# Altium footprint library Molex Microfit.PCBLIB: 194 footprints (part 1 of 13)
Each footprint in its own frame and in the unit in brackets; x right, y up, seen from the top. Pads: shape width x height; smd on the part's side, far side on the other; paste and mask are expansions set on the pad; w line width, h text height; cw(c..) or ccw(c..) is an arc to the next point about the centre after c.
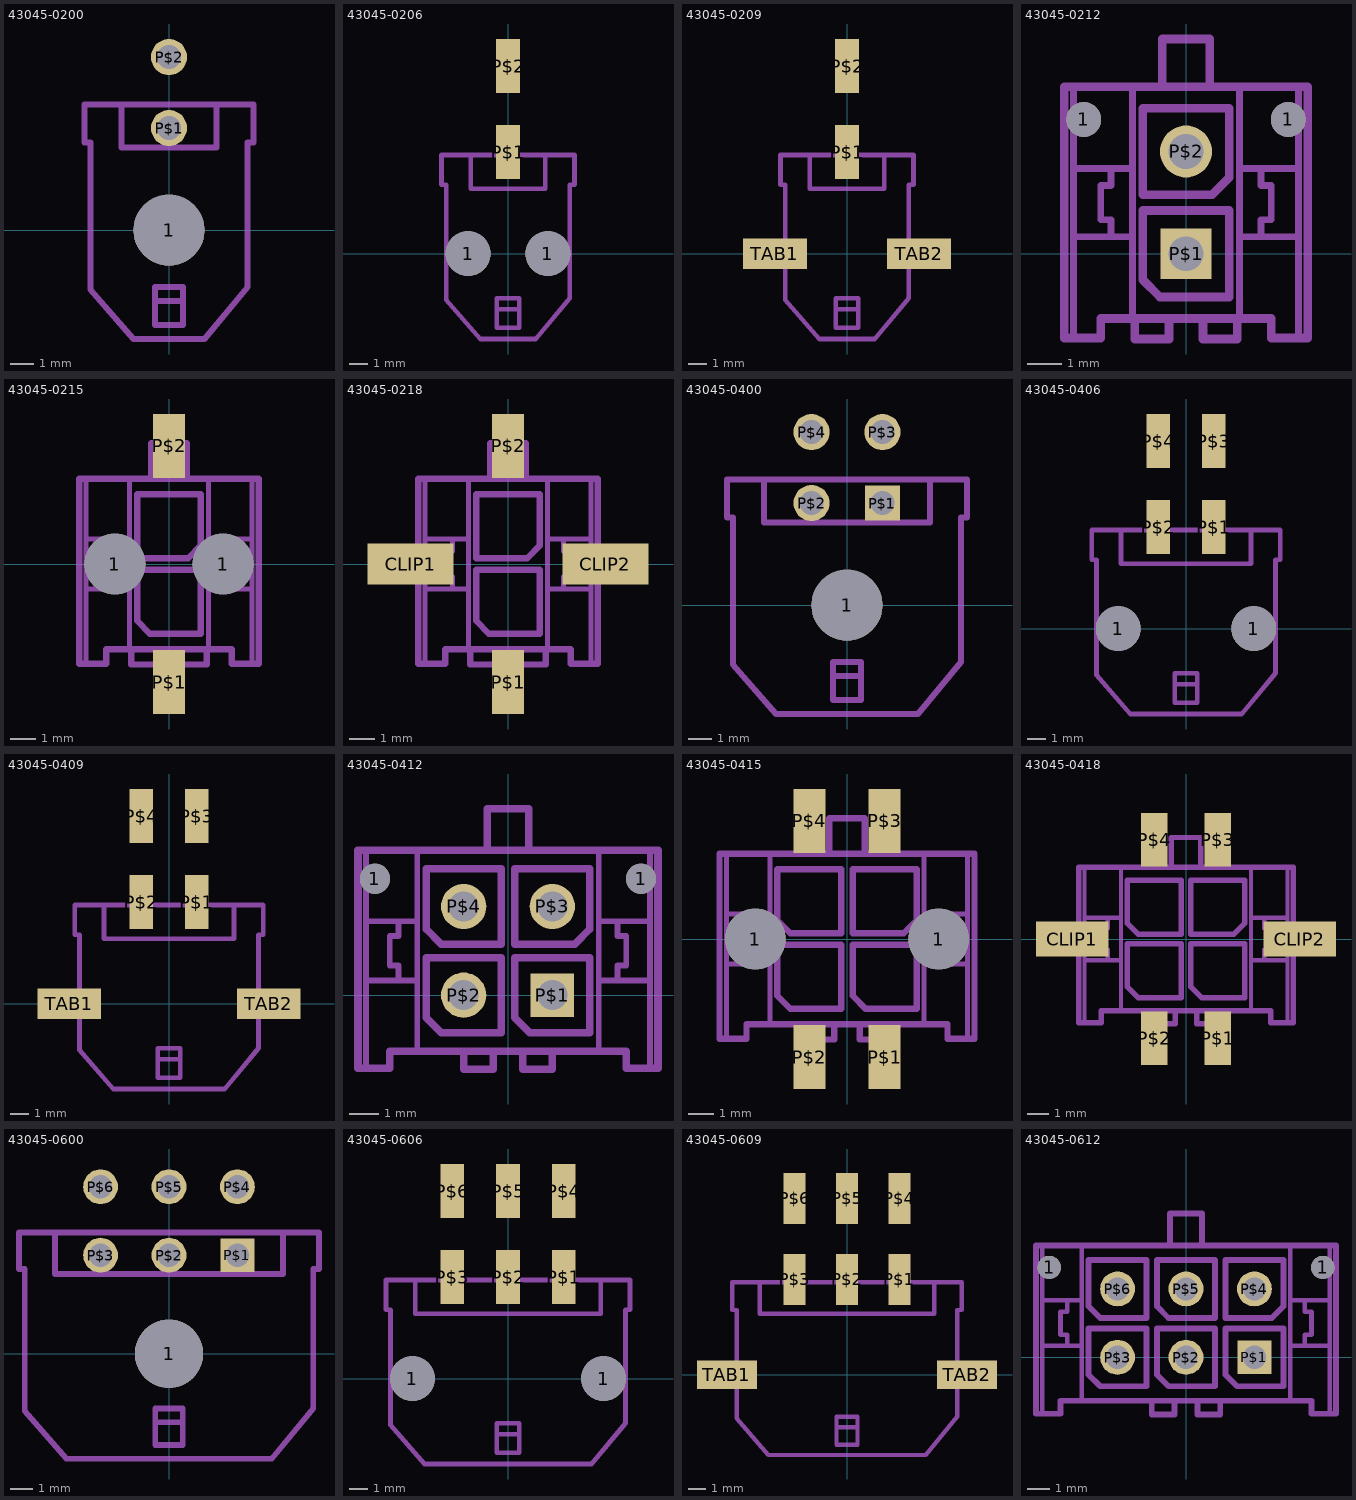
[diagram p0: the footprints below, top view; thin cyan lines are the x and y axes]

## 43045-0200 [mm]
pads (3):
  round 3 hole 3 unplated: 1(0,0)
  round 1.53 / inner round 1.524 / far side round 1.53 hole 1.02: P$1(0,4.32) P$2(0,7.32)
Mechanical 22:
  lines w0.254: -2,5.31 -3.58,5.31 -3.58,3.71 -3.325,3.71 -3.325,-2.5 -1.5,-4.6 1.5,-4.6 3.325,-2.4 3.325,3.71 3.58,3.71 3.58,5.31 2,5.31 ; -2,5.31 2,5.31 ; -2,5.31 -2,3.5 2,3.5 2,5.31 ; -0.6,-3 -0.6,-4 0.6,-4 0.6,-3 ; -0.6,-3 -0.6,-2.4 0.6,-2.4 0.6,-3 ; -0.6,-3 0.6,-3

## 43045-0206 [mm]
pads (4):
  round 2.41 hole 2.41 unplated: 1(-2.15,0) 1(2.15,0)
  rect 1.27x2.92 smd: P$1(0,5.47) P$2(0,10.1)
Mechanical 22:
  lines w0.254: -2,5.31 -3.58,5.31 -3.58,3.71 -3.325,3.71 -3.325,-2.5 -1.5,-4.6 1.5,-4.6 3.325,-2.4 3.325,3.71 3.58,3.71 3.58,5.31 2,5.31 ; -2,5.31 2,5.31 ; -2,5.31 -2,3.5 2,3.5 2,5.31 ; -0.6,-3 -0.6,-4 0.6,-4 0.6,-3 ; -0.6,-3 -0.6,-2.4 0.6,-2.4 0.6,-3 ; -0.6,-3 0.6,-3

## 43045-0209 [mm]
pads (4):
  rect 1.27x2.92 smd: P$1(0,5.47) P$2(0,10.1)
  rect 3.43x1.65 smd: TAB1(-3.88,0) TAB2(3.88,0)
Mechanical 22:
  lines w0.254: -2,5.31 -3.58,5.31 -3.58,3.71 -3.325,3.71 -3.325,-2.5 -1.5,-4.6 1.5,-4.6 3.325,-2.4 3.325,3.71 3.58,3.71 3.58,5.31 2,5.31 ; -2,5.31 2,5.31 ; -2,5.31 -2,3.5 2,3.5 2,5.31 ; -0.6,-3 -0.6,-4 0.6,-4 0.6,-3 ; -0.6,-3 -0.6,-2.4 0.6,-2.4 0.6,-3 ; -0.6,-3 0.6,-3

## 43045-0212 [mm]
pads (4):
  round 1.02 hole 1.02 unplated: 1(-3,3.94) 1(3,3.94)
  rect 1.482x1.482 / inner rect 1.524x1.524 / far side rect 1.482x1.482 hole 1.02: P$1(0,0)
  round 1.53 / inner round 1.524 / far side round 1.53 hole 1.02: P$2(0,3)
Mechanical 22:
  lines w0.2: -3.3,-2.47 -3.3,0.5 ; -3.3,4.9 -3.3,2.5 ; -1.57,-1.9 -1.57,0.5 ; -1.57,4.9 -1.57,2.5 ; 1.57,-1.9 1.57,0.5 ; 1.57,4.9 1.57,2.5 ; 3.3,-2.47 3.3,0.5 ; 3.3,4.9 3.3,2.5 ; -3.3,0.5 -2.2,0.5 ; -3.3,0.5 -3.3,2.5 ; -3.3,2.5 -2.2,2.5 ; -2.2,0.5 -2.2,1 -2.5,1 -2.5,2 -2.2,2 -2.2,2.5 ; -2.2,0.5 -1.57,0.5 ; -2.2,2.5 -1.57,2.5 ; -1.57,0.5 -1.57,2.5 ; 1.57,0.5 2.2,0.5 ; 1.57,0.5 1.57,2.5 ; 1.57,2.5 2.2,2.5 ; 2.2,0.5 2.2,1 2.5,1 2.5,2 2.2,2 2.2,2.5 ; 2.2,0.5 3.3,0.5 ; 2.2,2.5 3.3,2.5 ; 3.3,0.5 3.3,2.5
  lines w0.254: -1.5,-1.9 -1.5,-2.5 -0.5,-2.5 -0.5,-1.9 ; -1.5,-1.9 -1.57,-1.9 -2.5,-1.9 -2.5,-2.47 -3.3,-2.47 -3.575,-2.47 -3.575,4.9 -3.3,4.9 -1.57,4.9 -0.7,4.9 ; -1.5,-1.9 -0.5,-1.9 ; -0.7,4.9 -0.7,6.3 0.7,6.3 0.7,4.9 ; -0.7,4.9 0.7,4.9 ; -0.5,-1.9 0.5,-1.9 ; 0.5,-1.9 0.5,-2.5 1.5,-2.5 1.5,-1.9 ; 0.5,-1.9 1.5,-1.9 ; 0.7,4.9 1.57,4.9 3.3,4.9 3.575,4.9 3.575,-2.47 3.3,-2.47 2.5,-2.47 2.5,-1.9 1.57,-1.9 1.5,-1.9 ; -1.27,-0.762 -0.762,-1.27 1.27,-1.27 1.27,1.27 -1.27,1.27 -1.27,-0.762
Mechanical 23:
  lines w0.254: -1.27,1.73 0.762,1.73 1.27,2.238 1.27,4.27 -1.27,4.27 -1.27,1.73

## 43045-0215 [mm]
pads (4):
  round 2.41 hole 2.41 unplated: 1(-2.15,0) 1(2.15,0)
  rect 1.27x2.54 smd: P$1(0,-4.7) P$2(0,4.7)
Mechanical 22:
  lines w0.2: -3.3,-3.97 -3.3,-1 ; -3.3,3.4 -3.3,1 ; -1.57,-3.4 -1.57,-1 ; -1.57,3.4 -1.57,1 ; 1.57,-3.4 1.57,-1 ; 1.57,3.4 1.57,1 ; 3.3,-3.97 3.3,-1 ; 3.3,3.4 3.3,1 ; -3.3,-1 -3.3,1 ; -3.3,-1 -2.2,-1 ; -3.3,1 -2.2,1 ; -2.2,-1 -1.57,-1 ; -2.2,-1 -2.2,-0.5 -2.5,-0.5 -2.5,0.5 -2.2,0.5 -2.2,1 ; -2.2,1 -1.57,1 ; -1.57,-1 -1.57,1 ; 1.57,-1 1.57,1 ; 1.57,-1 2.2,-1 ; 1.57,1 2.2,1 ; 2.2,-1 3.3,-1 ; 2.2,-1 2.2,-0.5 2.5,-0.5 2.5,0.5 2.2,0.5 2.2,1 ; 2.2,1 3.3,1 ; 3.3,-1 3.3,1
  lines w0.254: -1.5,-3.4 -0.5,-3.4 ; -1.5,-3.4 -1.57,-3.4 -2.5,-3.4 -2.5,-3.97 -3.3,-3.97 -3.575,-3.97 -3.575,3.4 -3.3,3.4 -1.57,3.4 -0.7,3.4 ; -1.5,-3.4 -1.5,-4 -0.5,-4 -0.5,-3.4 ; -0.7,3.4 0.7,3.4 ; -0.7,3.4 -0.7,4.8 0.7,4.8 0.7,3.4 ; -0.5,-3.4 0.5,-3.4 ; 0.5,-3.4 1.5,-3.4 ; 0.5,-3.4 0.5,-4 1.5,-4 1.5,-3.4 ; 0.7,3.4 1.57,3.4 3.3,3.4 3.575,3.4 3.575,-3.97 3.3,-3.97 2.5,-3.97 2.5,-3.4 1.57,-3.4 1.5,-3.4 ; -1.27,-2.262 -1.27,-0.23 1.27,-0.23 1.27,-2.77 -0.762,-2.77 -1.27,-2.262
Mechanical 23:
  lines w0.254: -1.27,0.23 -1.27,2.77 1.27,2.77 1.27,0.738 0.762,0.23 -1.27,0.23

## 43045-0218 [mm]
pads (4):
  rect 3.43x1.65 smd: CLIP1(-3.88,0) CLIP2(3.88,0)
  rect 1.27x2.54 smd: P$1(0,-4.7) P$2(0,4.7)
Mechanical 22:
  lines w0.2: -3.3,-3.97 -3.3,-1 ; -3.3,3.4 -3.3,1 ; -1.57,-3.4 -1.57,-1 ; -1.57,3.4 -1.57,1 ; 1.57,-3.4 1.57,-1 ; 1.57,3.4 1.57,1 ; 3.3,-3.97 3.3,-1 ; 3.3,3.4 3.3,1 ; -3.3,-1 -2.2,-1 ; -3.3,-1 -3.3,1 ; -3.3,1 -2.2,1 ; -2.2,-1 -2.2,-0.5 -2.5,-0.5 -2.5,0.5 -2.2,0.5 -2.2,1 ; -2.2,-1 -1.57,-1 ; -2.2,1 -1.57,1 ; -1.57,-1 -1.57,1 ; 1.57,-1 2.2,-1 ; 1.57,-1 1.57,1 ; 1.57,1 2.2,1 ; 2.2,-1 2.2,-0.5 2.5,-0.5 2.5,0.5 2.2,0.5 2.2,1 ; 2.2,-1 3.3,-1 ; 2.2,1 3.3,1 ; 3.3,-1 3.3,1
  lines w0.254: -1.5,-3.4 -1.5,-4 -0.5,-4 -0.5,-3.4 ; -1.5,-3.4 -1.57,-3.4 -2.5,-3.4 -2.5,-3.97 -3.3,-3.97 -3.575,-3.97 -3.575,3.4 -3.3,3.4 -1.57,3.4 -0.7,3.4 ; -1.5,-3.4 -0.5,-3.4 ; -0.7,3.4 -0.7,4.8 0.7,4.8 0.7,3.4 ; -0.7,3.4 0.7,3.4 ; -0.5,-3.4 0.5,-3.4 ; 0.5,-3.4 0.5,-4 1.5,-4 1.5,-3.4 ; 0.5,-3.4 1.5,-3.4 ; 0.7,3.4 1.57,3.4 3.3,3.4 3.575,3.4 3.575,-3.97 3.3,-3.97 2.5,-3.97 2.5,-3.4 1.57,-3.4 1.5,-3.4 ; -1.27,-2.262 -0.762,-2.77 1.27,-2.77 1.27,-0.23 -1.27,-0.23 -1.27,-2.262
Mechanical 23:
  lines w0.254: -1.27,0.23 0.762,0.23 1.27,0.738 1.27,2.77 -1.27,2.77 -1.27,0.23

## 43045-0400 [mm]
pads (5):
  round 3 hole 3 unplated: 1(0,0)
  rect 1.482x1.482 / inner rect 1.524x1.524 / far side rect 1.482x1.482 hole 1.02: P$1(1.5,4.32)
  round 1.53 / inner round 1.524 / far side round 1.53 hole 1.02: P$2(-1.5,4.32) P$3(1.5,7.32) P$4(-1.5,7.32)
Mechanical 22:
  lines w0.254: -3.5,5.31 -5.08,5.31 -5.08,3.71 -4.825,3.71 -4.825,-2.5 -3,-4.6 3,-4.6 4.825,-2.4 4.825,3.71 5.08,3.71 5.08,5.31 3.5,5.31 ; -3.5,5.31 3.5,5.31 ; -3.5,5.31 -3.5,3.5 3.5,3.5 3.5,5.31 ; -0.6,-3 -0.6,-4 0.6,-4 0.6,-3 ; -0.6,-3 -0.6,-2.4 0.6,-2.4 0.6,-3 ; -0.6,-3 0.6,-3
3D body "430450400.stp": height 8.83, standoff -3.12, extent -5.075,-4.55 5.075,7.69

## 43045-0406 [mm]
pads (6):
  round 2.41 hole 2.41 unplated: 1(-3.65,0) 1(3.65,0)
  rect 1.27x2.92 smd: P$1(1.5,5.47) P$2(-1.5,5.47) P$3(1.5,10.1) P$4(-1.5,10.1)
Mechanical 22:
  lines w0.254: -4.83,5.31 -5.08,5.31 -5.08,3.71 -4.825,3.71 -4.825,-2.5 -3,-4.6 3,-4.6 4.825,-2.4 4.825,3.71 5.08,3.71 5.08,5.31 3.5,5.31 ; -4.825,5.31 -3.5,5.31 ; -3.5,5.31 3.5,5.31 ; -3.5,5.31 -3.5,3.5 3.5,3.5 3.5,5.31 ; -0.6,-3 -0.6,-4 0.6,-4 0.6,-3 ; -0.6,-3 -0.6,-2.4 0.6,-2.4 0.6,-3 ; -0.6,-3 0.6,-3

## 43045-0409 [mm]
pads (6):
  rect 1.27x2.92 smd: P$1(1.5,5.47) P$2(-1.5,5.47) P$3(1.5,10.1) P$4(-1.5,10.1)
  rect 3.43x1.65 smd: TAB1(-5.38,0) TAB2(5.38,0)
Mechanical 22:
  lines w0.254: -4.83,5.31 -5.08,5.31 -5.08,3.71 -4.825,3.71 -4.825,-2.5 -3,-4.6 3,-4.6 4.825,-2.4 4.825,3.71 5.08,3.71 5.08,5.31 3.5,5.31 ; -4.825,5.31 -3.5,5.31 ; -3.5,5.31 -3.5,3.5 3.5,3.5 3.5,5.31 ; -3.5,5.31 3.5,5.31 ; -0.6,-3 0.6,-3 ; -0.6,-3 -0.6,-2.4 0.6,-2.4 0.6,-3 ; -0.6,-3 -0.6,-4 0.6,-4 0.6,-3

## 43045-0412 [mm]
pads (6):
  round 1.02 hole 1.02 unplated: 1(-4.5,3.94) 1(4.5,3.94)
  rect 1.482x1.482 / inner rect 1.524x1.524 / far side rect 1.482x1.482 hole 1.02: P$1(1.5,0)
  round 1.53 / inner round 1.524 / far side round 1.53 hole 1.02: P$2(-1.5,0) P$3(1.5,3) P$4(-1.5,3)
Mechanical 22:
  lines w0.2: -4.8,-2.47 -4.8,0.5 ; -4.8,4.9 -4.8,2.5 ; -3.07,-1.9 -3.07,0.5 ; -3.07,4.9 -3.07,2.5 ; 3.07,-1.9 3.07,0.5 ; 3.07,4.9 3.07,2.5 ; 4.8,-2.47 4.8,0.5 ; 4.8,4.9 4.8,2.5 ; -4.8,0.5 -4.8,2.5 ; -4.8,0.5 -3.7,0.5 ; -4.8,2.5 -3.7,2.5 ; -3.7,0.5 -3.07,0.5 ; -3.7,0.5 -3.7,1 -4,1 -4,2 -3.7,2 -3.7,2.5 ; -3.7,2.5 -3.07,2.5 ; -3.07,0.5 -3.07,2.5 ; 3.07,0.5 3.07,2.5 ; 3.07,0.5 3.7,0.5 ; 3.07,2.5 3.7,2.5 ; 3.7,0.5 4.8,0.5 ; 3.7,0.5 3.7,1 4,1 4,2 3.7,2 3.7,2.5 ; 3.7,2.5 4.8,2.5 ; 4.8,0.5 4.8,2.5
  lines w0.254: -1.5,-1.9 -0.5,-1.9 ; -1.5,-1.9 -3.07,-1.9 -4,-1.9 -4,-2.47 -4.8,-2.47 -5.075,-2.47 -5.075,4.9 -4.8,4.9 -3.07,4.9 -0.7,4.9 ; -1.5,-1.9 -1.5,-2.5 -0.5,-2.5 -0.5,-1.9 ; -0.7,4.9 0.7,4.9 ; -0.7,4.9 -0.7,6.3 0.7,6.3 0.7,4.9 ; -0.5,-1.9 0.5,-1.9 ; 0.5,-1.9 1.5,-1.9 ; 0.5,-1.9 0.5,-2.5 1.5,-2.5 1.5,-1.9 ; 0.7,4.9 3.07,4.9 4.8,4.9 5.075,4.9 5.075,-2.47 4.8,-2.47 4,-2.47 4,-1.9 3.07,-1.9 1.5,-1.9 ; -2.77,-0.762 -2.77,1.27 -0.23,1.27 -0.23,-1.27 -2.262,-1.27 -2.77,-0.762 ; -2.77,2.238 -2.77,4.27 -0.23,4.27 -0.23,1.73 -2.262,1.73 -2.77,2.238 ; 0.23,-0.762 0.23,1.27 2.77,1.27 2.77,-1.27 0.738,-1.27 0.23,-0.762
Mechanical 23:
  lines w0.254: 0.23,1.73 0.23,4.27 2.77,4.27 2.77,2.238 2.262,1.73 0.23,1.73
3D body "430450412.stp": height 10.03, standoff -3.06, extent -5.075,-2.446 5.075,6.324

## 43045-0415 [mm]
pads (6):
  round 2.41 hole 2.41 unplated: 1(-3.65,0) 1(3.65,0)
  rect 1.27x2.54 smd: P$1(1.5,-4.7) P$2(-1.5,-4.7) P$3(1.5,4.7) P$4(-1.5,4.7)
Mechanical 22:
  lines w0.2: -4.8,-3.97 -4.8,-1 ; -4.8,3.4 -4.8,1 ; -3.07,-3.4 -3.07,-1 ; -3.07,3.4 -3.07,1 ; 3.07,-3.4 3.07,-1 ; 3.07,3.4 3.07,1 ; 4.8,-3.97 4.8,-1 ; 4.8,3.4 4.8,1 ; -4.8,-1 -3.7,-1 ; -4.8,-1 -4.8,1 ; -4.8,1 -3.7,1 ; -3.7,-1 -3.7,-0.5 -4,-0.5 -4,0.5 -3.7,0.5 -3.7,1 ; -3.7,-1 -3.07,-1 ; -3.7,1 -3.07,1 ; -3.07,-1 -3.07,1 ; 3.07,-1 3.7,-1 ; 3.07,-1 3.07,1 ; 3.07,1 3.7,1 ; 3.7,-1 3.7,-0.5 4,-0.5 4,0.5 3.7,0.5 3.7,1 ; 3.7,-1 4.8,-1 ; 3.7,1 4.8,1 ; 4.8,-1 4.8,1
  lines w0.254: -1.5,-3.4 -1.5,-4 -0.5,-4 -0.5,-3.4 ; -1.5,-3.4 -3.07,-3.4 -4,-3.4 -4,-3.97 -4.8,-3.97 -5.075,-3.97 -5.075,3.4 -4.8,3.4 -3.07,3.4 -0.7,3.4 ; -1.5,-3.4 -0.5,-3.4 ; -0.7,3.4 -0.7,4.8 0.7,4.8 0.7,3.4 ; -0.7,3.4 0.7,3.4 ; -0.5,-3.4 0.5,-3.4 ; 0.5,-3.4 0.5,-4 1.5,-4 1.5,-3.4 ; 0.5,-3.4 1.5,-3.4 ; 0.7,3.4 3.07,3.4 4.8,3.4 5.075,3.4 5.075,-3.97 4.8,-3.97 4,-3.97 4,-3.4 3.07,-3.4 1.5,-3.4 ; -2.77,-2.262 -2.262,-2.77 -0.23,-2.77 -0.23,-0.23 -2.77,-0.23 -2.77,-2.262 ; -2.77,0.738 -2.262,0.23 -0.23,0.23 -0.23,2.77 -2.77,2.77 -2.77,0.738 ; 0.23,-2.262 0.738,-2.77 2.77,-2.77 2.77,-0.23 0.23,-0.23 0.23,-2.262
Mechanical 23:
  lines w0.254: 0.23,0.23 2.262,0.23 2.77,0.738 2.77,2.77 0.23,2.77 0.23,0.23

## 43045-0418 [mm]
pads (6):
  rect 3.43x1.65 smd: CLIP1(-5.38,0) CLIP2(5.38,0)
  rect 1.27x2.54 smd: P$1(1.5,-4.7) P$2(-1.5,-4.7) P$3(1.5,4.7) P$4(-1.5,4.7)
Mechanical 22:
  lines w0.2: -4.8,-3.97 -4.8,-1 ; -4.8,3.4 -4.8,1 ; -3.07,-3.4 -3.07,-1 ; -3.07,3.4 -3.07,1 ; 3.07,-3.4 3.07,-1 ; 3.07,3.4 3.07,1 ; 4.8,-3.97 4.8,-1 ; 4.8,3.4 4.8,1 ; -4.8,-1 -4.8,1 ; -4.8,-1 -3.7,-1 ; -4.8,1 -3.7,1 ; -3.7,-1 -3.07,-1 ; -3.7,-1 -3.7,-0.5 -4,-0.5 -4,0.5 -3.7,0.5 -3.7,1 ; -3.7,1 -3.07,1 ; -3.07,-1 -3.07,1 ; 3.07,-1 3.07,1 ; 3.07,-1 3.7,-1 ; 3.07,1 3.7,1 ; 3.7,-1 4.8,-1 ; 3.7,-1 3.7,-0.5 4,-0.5 4,0.5 3.7,0.5 3.7,1 ; 3.7,1 4.8,1 ; 4.8,-1 4.8,1
  lines w0.254: -1.5,-3.4 -0.5,-3.4 ; -1.5,-3.4 -3.07,-3.4 -4,-3.4 -4,-3.97 -4.8,-3.97 -5.075,-3.97 -5.075,3.4 -4.8,3.4 -3.07,3.4 -0.7,3.4 ; -1.5,-3.4 -1.5,-4 -0.5,-4 -0.5,-3.4 ; -0.7,3.4 0.7,3.4 ; -0.7,3.4 -0.7,4.8 0.7,4.8 0.7,3.4 ; -0.5,-3.4 0.5,-3.4 ; 0.5,-3.4 1.5,-3.4 ; 0.5,-3.4 0.5,-4 1.5,-4 1.5,-3.4 ; 0.7,3.4 3.07,3.4 4.8,3.4 5.075,3.4 5.075,-3.97 4.8,-3.97 4,-3.97 4,-3.4 3.07,-3.4 1.5,-3.4 ; -2.77,-2.262 -2.77,-0.23 -0.23,-0.23 -0.23,-2.77 -2.262,-2.77 -2.77,-2.262 ; -2.77,0.738 -2.77,2.77 -0.23,2.77 -0.23,0.23 -2.262,0.23 -2.77,0.738 ; 0.23,-2.262 0.23,-0.23 2.77,-0.23 2.77,-2.77 0.738,-2.77 0.23,-2.262
Mechanical 23:
  lines w0.254: 0.23,0.23 0.23,2.77 2.77,2.77 2.77,0.738 2.262,0.23 0.23,0.23

## 43045-0600 [mm]
pads (7):
  round 3 hole 3 unplated: 1(0,0)
  rect 1.482x1.482 / inner rect 1.524x1.524 / far side rect 1.482x1.482 hole 1.02: P$1(3,4.32)
  round 1.53 / inner round 1.524 / far side round 1.53 hole 1.02: P$2(0,4.32) P$3(-3,4.32) P$4(3,7.32) P$5(0,7.32) P$6(-3,7.32)
Mechanical 22:
  lines w0.127: -4.83,5.31 -5,5.31 -4.825,5.31
  lines w0.254: -5,5.31 -5,3.5 5,3.5 5,5.31 ; -5,5.31 5,5.31 ; -5,5.31 -6.575,5.31 -6.575,3.71 -6.325,3.71 -6.325,-2.5 -4.5,-4.6 4.5,-4.6 6.325,-2.4 6.325,3.71 6.575,3.71 6.575,5.31 5,5.31 ; -0.6,-3 0.6,-3 ; -0.6,-3 -0.6,-2.4 0.6,-2.4 0.6,-3 ; -0.6,-3 -0.6,-4 0.6,-4 0.6,-3

## 43045-0606 [mm]
pads (8):
  round 2.41 hole 2.41 unplated: 1(-5.15,0) 1(5.15,0)
  rect 1.27x2.92 smd: P$1(3,5.47) P$2(0,5.47) P$3(-3,5.47) P$4(3,10.1) P$5(0,10.1) P$6(-3,10.1)
Mechanical 22:
  lines w0.127: -4.83,5.31 -5,5.31 -4.825,5.31
  lines w0.254: -5,5.31 -5,3.5 5,3.5 5,5.31 ; -5,5.31 5,5.31 ; -5,5.31 -6.575,5.31 -6.575,3.71 -6.325,3.71 -6.325,-2.5 -4.5,-4.6 4.5,-4.6 6.325,-2.4 6.325,3.71 6.575,3.71 6.575,5.31 5,5.31 ; -0.6,-3 0.6,-3 ; -0.6,-3 -0.6,-2.4 0.6,-2.4 0.6,-3 ; -0.6,-3 -0.6,-4 0.6,-4 0.6,-3

## 43045-0609 [mm]
pads (8):
  rect 1.27x2.92 smd: P$1(3,5.47) P$2(0,5.47) P$3(-3,5.47) P$4(3,10.1) P$5(0,10.1) P$6(-3,10.1)
  rect 3.43x1.65 smd: TAB1(-6.88,0) TAB2(6.88,0)
Mechanical 22:
  lines w0.127: -4.83,5.31 -5,5.31 -4.825,5.31
  lines w0.254: -5,5.31 -5,3.5 5,3.5 5,5.31 ; -5,5.31 5,5.31 ; -5,5.31 -6.575,5.31 -6.575,3.71 -6.325,3.71 -6.325,-2.5 -4.5,-4.6 4.5,-4.6 6.325,-2.4 6.325,3.71 6.575,3.71 6.575,5.31 5,5.31 ; -0.6,-3 0.6,-3 ; -0.6,-3 -0.6,-2.4 0.6,-2.4 0.6,-3 ; -0.6,-3 -0.6,-4 0.6,-4 0.6,-3

## 43045-0612 [mm]
pads (8):
  round 1.02 hole 1.02 unplated: 1(-6,3.94) 1(6,3.94)
  rect 1.482x1.482 / inner rect 1.524x1.524 / far side rect 1.482x1.482 hole 1.02: P$1(3,0)
  round 1.53 / inner round 1.524 / far side round 1.53 hole 1.02: P$2(0,0) P$3(-3,0) P$4(3,3) P$5(0,3) P$6(-3,3)
Mechanical 22:
  lines w0.2: -6.3,-2.47 -6.3,-1.7 -6.3,-1 -6.3,0.5 ; -6.3,4.9 -6.3,4 -6.3,2.5 ; -4.57,-1.9 -4.57,-1 -4.57,0.5 ; -4.57,4.9 -4.57,4 -4.57,2.5 ; 4.57,-1.9 4.57,-1 4.57,0.5 ; 4.57,4.9 4.57,4 4.57,2.5 ; 6.3,-2.47 6.3,-1.7 6.3,-1 6.3,0.5 ; 6.3,4.9 6.3,4 6.3,2.5 ; -6.3,0.5 -6.3,2.5 ; -6.3,0.5 -5.2,0.5 ; -6.3,2.5 -5.2,2.5 ; -5.2,0.5 -4.57,0.5 ; -5.2,0.5 -5.2,1 -5.5,1 -5.5,2 -5.2,2 -5.2,2.5 ; -5.2,2.5 -4.57,2.5 ; -4.57,0.5 -4.57,2.5 ; 4.57,0.5 4.57,2.5 ; 4.57,0.5 5.2,0.5 ; 4.57,2.5 5.2,2.5 ; 5.2,0.5 6.3,0.5 ; 5.2,0.5 5.2,1 5.5,1 5.5,2 5.2,2 5.2,2.5 ; 5.2,2.5 6.3,2.5 ; 6.3,0.5 6.3,2.5
  lines w0.254: -1.5,-1.9 -0.5,-1.9 ; -1.5,-1.9 -4.57,-1.9 -5.5,-1.9 -5.5,-2.47 -6.3,-2.47 -6.575,-2.47 -6.575,4.9 -6.3,4.9 -4.57,4.9 -0.7,4.9 ; -1.5,-1.9 -1.5,-2.5 -0.5,-2.5 -0.5,-1.9 ; -0.7,4.9 0.7,4.9 ; -0.7,4.9 -0.7,6.3 0.7,6.3 0.7,4.9 ; -0.5,-1.9 0.5,-1.9 ; 0.5,-1.9 1.5,-1.9 ; 0.5,-1.9 0.5,-2.5 1.5,-2.5 1.5,-1.9 ; 0.7,4.9 4.57,4.9 6.3,4.9 6.575,4.9 6.575,-2.47 6.3,-2.47 5.5,-2.47 5.5,-1.9 4.57,-1.9 1.5,-1.9 ; -4.27,-0.762 -4.27,1.27 -1.73,1.27 -1.73,-1.27 -3.762,-1.27 -4.27,-0.762 ; -4.27,2.238 -4.27,4.27 -1.73,4.27 -1.73,1.73 -3.762,1.73 -4.27,2.238 ; -1.27,-0.762 -1.27,1.27 1.27,1.27 1.27,-1.27 -0.762,-1.27 -1.27,-0.762 ; -1.27,2.238 -1.27,4.27 1.27,4.27 1.27,1.73 -0.762,1.73 -1.27,2.238 ; 1.73,-0.762 1.73,1.27 4.27,1.27 4.27,-1.27 2.238,-1.27 1.73,-0.762
Mechanical 23:
  lines w0.254: 1.73,1.73 1.73,4.27 4.27,4.27 4.27,2.238 3.762,1.73 1.73,1.73
3D body "430450612.stp": height 10.03, standoff -3.06, extent -6.575,-2.446 6.575,6.324